# Altium schematic symbol library Coi.SchLib: 1 symbol
Pins are listed as number, name and electrical type; pins without a type are passive.

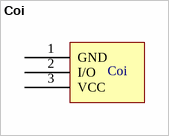
[diagram p0: symbol Coi]

## Coi
designator Coi
footprint Coi
pins: 1 GND, 2 I/O, 3 VCC